# Altium integrated library Resistors.IntLib: 4954 symbols (part 6 of 32)
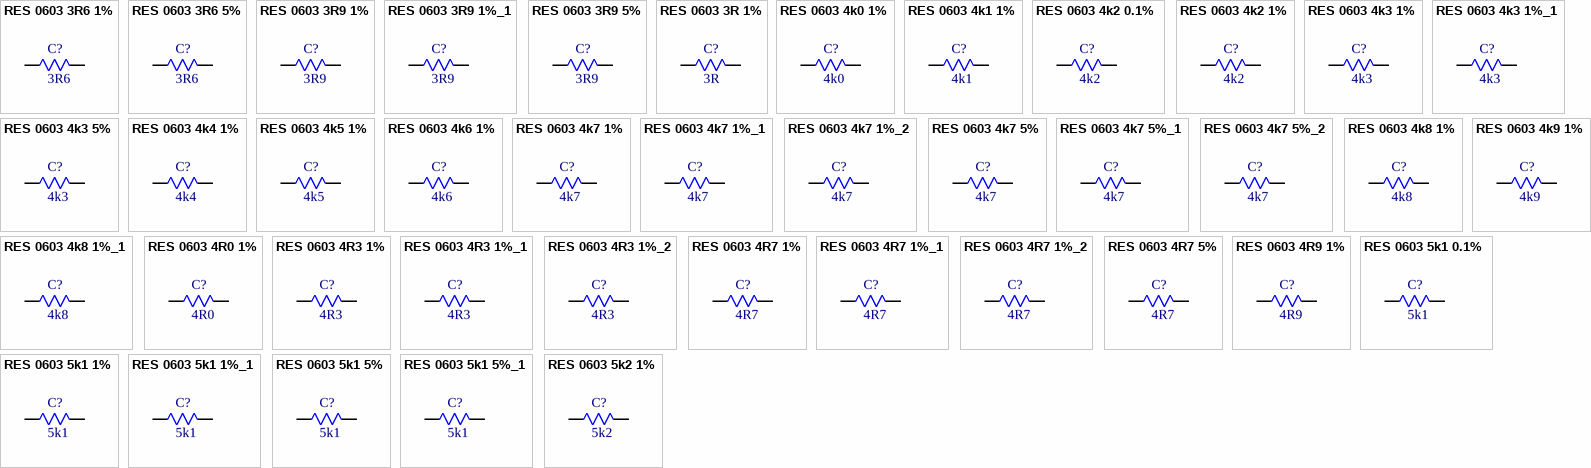
[diagram p128: symbols RES 0603 3R6 1% to RES 0603 5k2 1%]

## RES 0603 5k1 1%
designator C?, comment 5k1
5.1kR 1% 100mW 0603 Thick Film Resistor; Manufacturer: FOJAN; Manufacturer Part Number: FRC0603F5101TS; Voltage Rating: 75V; Supplier: LCSC; Supplier Part Number: C2907044; Resistance: 5k1; Tolerance: 1%; Power: 100mW
footprint RES SMD 0603
pins: 1, 2

## RES 0603 5k1 1%_1
designator C?, comment 5k1
100mW 5.1kR Thick Film Resistor 1% 100ppm/â„ƒ 0603 Chip Resistor - Surface Mount RoHS; Manufacturer: FOJAN; Manufacturer Part Number: FRQ0603F5101TS; Supplier: LCSC; Supplier Part Number: C7468498; Resistance: 5k1; Tolerance: 1%; Power: 100mW
footprint RES SMD 0603
pins: 1, 2

## RES 0603 5k1 5%
designator C?, comment 5k1
5.1kR 5% 100mW 0603 Thick Film Resistor; Manufacturer: FOJAN; Manufacturer Part Number: FRC0603J512 TS; Voltage Rating: 75V; Supplier: LCSC; Supplier Part Number: C2907114; Resistance: 5k1; Tolerance: 5%; Power: 100mW
footprint RES SMD 0603
pins: 1, 2

## RES 0603 5k1 5%_1
designator C?, comment 5k1
5.1kR 5% 100mW 0603 Thick Film Resistor AEC-Q200; Manufacturer: FOJAN; Manufacturer Part Number: FRQ0603J512 TS; Voltage Rating: 75V; Supplier: LCSC; Supplier Part Number: C2934400; Resistance: 5k1; Tolerance: 5%; Power: 100mW
footprint RES SMD 0603
pins: 1, 2

## RES 0603 5k2 1%
designator C?, comment 5k2
5.23kR 1% 100mW 0603 Thick Film Resistor; Manufacturer: FOJAN; Manufacturer Part Number: FRC0603F5231TS; Voltage Rating: 75V; Supplier: LCSC; Supplier Part Number: C2930111; Resistance: 5k2; Tolerance: 1%; Power: 100mW
footprint RES SMD 0603
pins: 1, 2

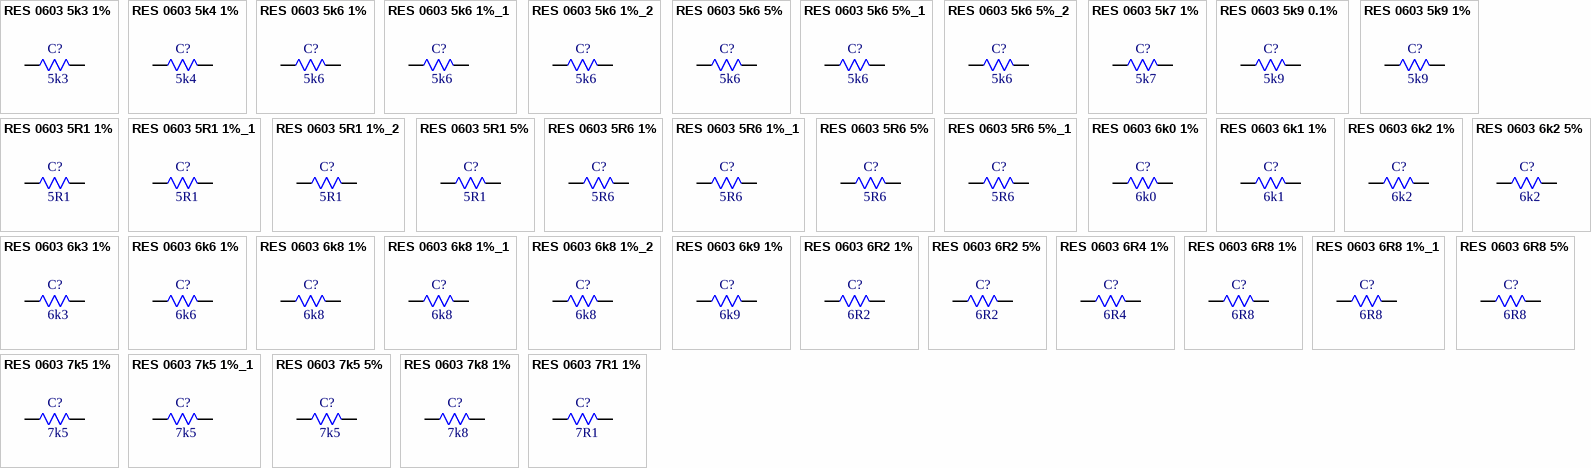
[diagram p20: symbols RES 0603 5k3 1% to RES 0603 7R1 1%]

## RES 0603 5k3 1%
designator C?, comment 5k3
5.36kR 1% 100mW 0603 Thick Film Resistor; Manufacturer: FOJAN; Manufacturer Part Number: FRC0603F5361TS; Voltage Rating: 75V; Supplier: LCSC; Supplier Part Number: C2930112; Resistance: 5k3; Tolerance: 1%; Power: 100mW
footprint RES SMD 0603
pins: 1, 2

## RES 0603 5k4 1%
designator C?, comment 5k4
5.49kR 1% 100mW 0603 Thick Film Resistor; Manufacturer: FOJAN; Manufacturer Part Number: FRC0603F5491TS; Voltage Rating: 75V; Supplier: LCSC; Supplier Part Number: C3000723; Resistance: 5k4; Tolerance: 1%; Power: 100mW
footprint RES SMD 0603
pins: 1, 2

## RES 0603 5k6 1%
designator C?, comment 5k6
5.6kR 1% 100mW 0603 Thick Film Resistor; Manufacturer: FOJAN; Manufacturer Part Number: FRC0603F5601TS; Voltage Rating: 75V; Supplier: LCSC; Supplier Part Number: C2907046; Resistance: 5k6; Tolerance: 1%; Power: 100mW
footprint RES SMD 0603
pins: 1, 2

## RES 0603 5k6 1%_1
designator C?, comment 5k6
5.62kR 1% 100mW 0603 Thick Film Resistor; Manufacturer: FOJAN; Manufacturer Part Number: FRC0603F5621TS; Voltage Rating: 75V; Supplier: LCSC; Supplier Part Number: C2930113; Resistance: 5k6; Tolerance: 1%; Power: 100mW
footprint RES SMD 0603
pins: 1, 2

## RES 0603 5k6 1%_2
designator C?, comment 5k6
100mW 5.6kR 75V Thick Film Resistor 1% 0603 Chip Resistor - Surface Mount RoHS; Manufacturer: FOJAN; Manufacturer Part Number: FRQ0603F5601TS; Supplier: LCSC; Supplier Part Number: C51048242; Resistance: 5k6; Tolerance: 1%; Voltage Rating: 75V; Power: 100mW
footprint RES SMD 0603
pins: 1, 2

## RES 0603 5k6 5%
designator C?, comment 5k6
5.6kR 5% 100mW 0603 Thick Film Resistor; Manufacturer: FOJAN; Manufacturer Part Number: FRC0603J562 TS; Voltage Rating: 75V; Supplier: LCSC; Supplier Part Number: C2907177; Resistance: 5k6; Tolerance: 5%; Power: 100mW
footprint RES SMD 0603
pins: 1, 2

## RES 0603 5k6 5%_1
designator C?, comment 5k6
100mW 5.6kR 75V Thick Film Resistor 5% 0603 Chip Resistor - Surface Mount RoHS; Manufacturer: FOJAN; Manufacturer Part Number: FRR0603J562 TS; Supplier: LCSC; Supplier Part Number: C51048110; Resistance: 5k6; Tolerance: 5%; Voltage Rating: 75V; Power: 100mW
footprint RES SMD 0603
pins: 1, 2

## RES 0603 5k6 5%_2
designator C?, comment 5k6
5.6kR 100mW 75V Thick Film Resistor 5% 100ppm/â„ƒ 0603 Chip Resistor - Surface Mount RoHS; Manufacturer: FOJAN; Manufacturer Part Number: FRQ0603J562 TS; Supplier: LCSC; Supplier Part Number: C7468668; Resistance: 5k6; Tolerance: 5%; Voltage Rating: 75V; Power: 100mW
footprint RES SMD 0603
pins: 1, 2

## RES 0603 5k7 1%
designator C?, comment 5k7
5.76kR 1% 100mW 0603 Thick Film Resistor; Manufacturer: FOJAN; Manufacturer Part Number: FRC0603F5761TS; Voltage Rating: 75V; Supplier: LCSC; Supplier Part Number: C2933239; Resistance: 5k7; Tolerance: 1%; Power: 100mW
footprint RES SMD 0603
pins: 1, 2

## RES 0603 5k9 0.1%
designator C?, comment 5k9
5.9kR 100mW 75V Thick Film Resistor 100ppm/â„ƒ 0.1% 0603 Chip Resistor - Surface Mount RoHS; Manufacturer: FOJAN; Manufacturer Part Number: FRH0603B5901TS; Supplier: LCSC; Supplier Part Number: C48533788; Resistance: 5k9; Tolerance: 0.1%; Voltage Rating: 75V; Power: 100mW
footprint RES SMD 0603
pins: 1, 2

## RES 0603 5k9 1%
designator C?, comment 5k9
5.9kR 1% 100mW 0603 Thick Film Resistor; Manufacturer: FOJAN; Manufacturer Part Number: FRC0603F5901TS; Voltage Rating: 75V; Supplier: LCSC; Supplier Part Number: C2933242; Resistance: 5k9; Tolerance: 1%; Power: 100mW
footprint RES SMD 0603
pins: 1, 2

## RES 0603 5R1 1%
designator C?, comment 5R1
5.1R 1% 100mW 0603 Thick Film Resistor; Manufacturer: FOJAN; Manufacturer Part Number: FRC0603F5R10TS; Voltage Rating: 75V; Supplier: LCSC; Supplier Part Number: C2907045; Resistance: 5R1; Tolerance: 1%; Power: 100mW
footprint RES SMD 0603
pins: 1, 2

## RES 0603 5R1 1%_1
designator C?, comment 5R1
5.1MR 1% 100mW 0603 Thick Film Resistor; Manufacturer: FOJAN; Manufacturer Part Number: FRC0603F5104TS; Voltage Rating: 75V; Supplier: LCSC; Supplier Part Number: C2933232; Resistance: 5R1; Tolerance: 1%; Power: 100mW
footprint RES SMD 0603
pins: 1, 2

## RES 0603 5R1 1%_2
designator C?, comment 5R1
5.11MR 1% 100mW 0603 Thick Film Resistor; Manufacturer: FOJAN; Manufacturer Part Number: FRC0603F5114TS; Voltage Rating: 75V; Supplier: LCSC; Supplier Part Number: C3000722; Resistance: 5R1; Tolerance: 1%; Power: 100mW
footprint RES SMD 0603
pins: 1, 2

## RES 0603 5R1 5%
designator C?, comment 5R1
5.1MR 5% 100mW 0603 Thick Film Resistor; Manufacturer: FOJAN; Manufacturer Part Number: FRC0603J515 TS; Voltage Rating: 75V; Supplier: LCSC; Supplier Part Number: C2907175; Resistance: 5R1; Tolerance: 5%; Power: 100mW
footprint RES SMD 0603
pins: 1, 2

## RES 0603 5R6 1%
designator C?, comment 5R6
5.6R 1% 100mW 0603 Thick Film Resistor; Manufacturer: FOJAN; Manufacturer Part Number: FRC0603F5R60TS; Voltage Rating: 75V; Supplier: LCSC; Supplier Part Number: C2933244; Resistance: 5R6; Tolerance: 1%; Power: 100mW
footprint RES SMD 0603
pins: 1, 2

## RES 0603 5R6 1%_1
designator C?, comment 5R6
5.6MR 1% 100mW 0603 Thick Film Resistor; Manufacturer: FOJAN; Manufacturer Part Number: FRC0603F5604TS; Voltage Rating: 75V; Supplier: LCSC; Supplier Part Number: C2933237; Resistance: 5R6; Tolerance: 1%; Power: 100mW
footprint RES SMD 0603
pins: 1, 2

## RES 0603 5R6 5%
designator C?, comment 5R6
5.6R 5% 100mW 0603 Thick Film Resistor; Manufacturer: FOJAN; Manufacturer Part Number: FRC0603J5R6 TS; Voltage Rating: 75V; Supplier: LCSC; Supplier Part Number: C2933277; Resistance: 5R6; Tolerance: 5%; Power: 100mW
footprint RES SMD 0603
pins: 1, 2

## RES 0603 5R6 5%_1
designator C?, comment 5R6
5.6MR 5% 100mW 0603 Thick Film Resistor; Manufacturer: FOJAN; Manufacturer Part Number: FRC0603J565 TS; Voltage Rating: 75V; Supplier: LCSC; Supplier Part Number: C2933276; Resistance: 5R6; Tolerance: 5%; Power: 100mW
footprint RES SMD 0603
pins: 1, 2

## RES 0603 6k0 1%
designator C?, comment 6k0
6.04kR 1% 100mW 0603 Thick Film Resistor; Manufacturer: FOJAN; Manufacturer Part Number: FRC0603F6041TS; Voltage Rating: 75V; Supplier: LCSC; Supplier Part Number: C2999565; Resistance: 6k0; Tolerance: 1%; Power: 100mW
footprint RES SMD 0603
pins: 1, 2

## RES 0603 6k1 1%
designator C?, comment 6k1
6.19kR 1% 100mW 0603 Thick Film Resistor; Manufacturer: FOJAN; Manufacturer Part Number: FRC0603F6191TS; Voltage Rating: 75V; Supplier: LCSC; Supplier Part Number: C2930119; Resistance: 6k1; Tolerance: 1%; Power: 100mW
footprint RES SMD 0603
pins: 1, 2

## RES 0603 6k2 1%
designator C?, comment 6k2
6.2kR 1% 100mW 0603 Thick Film Resistor; Manufacturer: FOJAN; Manufacturer Part Number: FRC0603F6201TS; Voltage Rating: 75V; Supplier: LCSC; Supplier Part Number: C2907054; Resistance: 6k2; Tolerance: 1%; Power: 100mW
footprint RES SMD 0603
pins: 1, 2

## RES 0603 6k2 5%
designator C?, comment 6k2
6.2kR 5% 100mW 0603 Thick Film Resistor; Manufacturer: FOJAN; Manufacturer Part Number: FRC0603J622 TS; Voltage Rating: 75V; Supplier: LCSC; Supplier Part Number: C2907186; Resistance: 6k2; Tolerance: 5%; Power: 100mW
footprint RES SMD 0603
pins: 1, 2

## RES 0603 6k3 1%
designator C?, comment 6k3
6.34kR 1% 100mW 0603 Thick Film Resistor; Manufacturer: FOJAN; Manufacturer Part Number: FRC0603F6341TS; Voltage Rating: 75V; Supplier: LCSC; Supplier Part Number: C2930120; Resistance: 6k3; Tolerance: 1%; Power: 100mW
footprint RES SMD 0603
pins: 1, 2

## RES 0603 6k6 1%
designator C?, comment 6k6
6.65kR 1% 100mW 0603 Thick Film Resistor; Manufacturer: FOJAN; Manufacturer Part Number: FRC0603F6651TS; Voltage Rating: 75V; Supplier: LCSC; Supplier Part Number: C5126260; Resistance: 6k6; Tolerance: 1%; Power: 100mW
footprint RES SMD 0603
pins: 1, 2

## RES 0603 6k8 1%
designator C?, comment 6k8
6.8kR 1% 100mW 0603 Thick Film Resistor; Manufacturer: FOJAN; Manufacturer Part Number: FRC0603F6801TS; Voltage Rating: 75V; Supplier: LCSC; Supplier Part Number: C2907055; Resistance: 6k8; Tolerance: 1%; Power: 100mW
footprint RES SMD 0603
pins: 1, 2

## RES 0603 6k8 1%_1
designator C?, comment 6k8
6.81kR 1% 100mW 0603 Thick Film Resistor; Manufacturer: FOJAN; Manufacturer Part Number: FRC0603F6811TS; Voltage Rating: 75V; Supplier: LCSC; Supplier Part Number: C2930121; Resistance: 6k8; Tolerance: 1%; Power: 100mW
footprint RES SMD 0603
pins: 1, 2

## RES 0603 6k8 1%_2
designator C?, comment 6k8
6.8kR 100mW 75V Thick Film Resistor 1% 100ppm/â„ƒ 0603 Chip Resistor - Surface Mount RoHS; Manufacturer: FOJAN; Manufacturer Part Number: FRQ0603F6801TS; Supplier: LCSC; Supplier Part Number: C7468500; Resistance: 6k8; Tolerance: 1%; Voltage Rating: 75V; Power: 100mW
footprint RES SMD 0603
pins: 1, 2

## RES 0603 6k9 1%
designator C?, comment 6k9
6.98kR 1% 100mW 0603 Thick Film Resistor; Manufacturer: FOJAN; Manufacturer Part Number: FRC0603F6981TS; Voltage Rating: 75V; Supplier: LCSC; Supplier Part Number: C2930122; Resistance: 6k9; Tolerance: 1%; Power: 100mW
footprint RES SMD 0603
pins: 1, 2

## RES 0603 6R2 1%
designator C?, comment 6R2
6.2R 1% 100mW 0603 Thick Film Resistor; Manufacturer: FOJAN; Manufacturer Part Number: FRC0603F6R20TS; Voltage Rating: 75V; Supplier: LCSC; Supplier Part Number: C3013206; Resistance: 6R2; Tolerance: 1%; Power: 100mW
footprint RES SMD 0603
pins: 1, 2

## RES 0603 6R2 5%
designator C?, comment 6R2
6.2MR 5% 100mW 0603 Thick Film Resistor; Manufacturer: FOJAN; Manufacturer Part Number: FRC0603J625TS; Voltage Rating: 75V; Supplier: LCSC; Supplier Part Number: C2930042; Resistance: 6R2; Tolerance: 5%; Power: 100mW
footprint RES SMD 0603
pins: 1, 2

## RES 0603 6R4 1%
designator C?, comment 6R4
6.49R 1% 100mW 0603 Thick Film Resistor; Manufacturer: FOJAN; Manufacturer Part Number: FRC0603F6R49TS; Voltage Rating: 75V; Supplier: LCSC; Supplier Part Number: C2999592; Resistance: 6R4; Tolerance: 1%; Power: 100mW
footprint RES SMD 0603
pins: 1, 2

## RES 0603 6R8 1%
designator C?, comment 6R8
6.8R 1% 100mW 0603 Thick Film Resistor; Manufacturer: FOJAN; Manufacturer Part Number: FRC0603F6R80TS; Voltage Rating: 75V; Supplier: LCSC; Supplier Part Number: C2907056; Resistance: 6R8; Tolerance: 1%; Power: 100mW
footprint RES SMD 0603
pins: 1, 2

## RES 0603 6R8 1%_1
designator C?, comment 6R8
6.8MR 1% 100mW 0603 Thick Film Resistor; Manufacturer: FOJAN; Manufacturer Part Number: FRC0603F6804TS; Voltage Rating: 75V; Supplier: LCSC; Supplier Part Number: C3013205; Resistance: 6R8; Tolerance: 1%; Power: 100mW
footprint RES SMD 0603
pins: 1, 2

## RES 0603 6R8 5%
designator C?, comment 6R8
6.8R 5% 100mW 0603 Thick Film Resistor; Manufacturer: FOJAN; Manufacturer Part Number: FRC0603J6R8 TS; Voltage Rating: 75V; Supplier: LCSC; Supplier Part Number: C2907190; Resistance: 6R8; Tolerance: 5%; Power: 100mW
footprint RES SMD 0603
pins: 1, 2

## RES 0603 7k5 1%
designator C?, comment 7k5
7.5kR 1% 100mW 0603 Thick Film Resistor; Manufacturer: FOJAN; Manufacturer Part Number: FRC0603F7501TS; Voltage Rating: 75V; Supplier: LCSC; Supplier Part Number: C2930127; Resistance: 7k5; Tolerance: 1%; Power: 100mW
footprint RES SMD 0603
pins: 1, 2

## RES 0603 7k5 1%_1
designator C?, comment 7k5
7.5kR 100mW 75V Thick Film Resistor 1% 0603 Chip Resistor - Surface Mount RoHS; Manufacturer: FOJAN; Manufacturer Part Number: FRR0603F7501TS; Supplier: LCSC; Supplier Part Number: C52033514; Resistance: 7k5; Tolerance: 1%; Voltage Rating: 75V; Power: 100mW
footprint RES SMD 0603
pins: 1, 2

## RES 0603 7k5 5%
designator C?, comment 7k5
7.5kR 100mW 75V Thick Film Resistor 100ppm/â„ƒ 5% 0603 Chip Resistor - Surface Mount RoHS; Manufacturer: FOJAN; Manufacturer Part Number: FRR0603J752 TS; Supplier: LCSC; Supplier Part Number: C49196818; Resistance: 7k5; Tolerance: 5%; Voltage Rating: 75V; Power: 100mW
footprint RES SMD 0603
pins: 1, 2

## RES 0603 7k8 1%
designator C?, comment 7k8
7.87kR 1% 100mW 0603 Thick Film Resistor; Manufacturer: FOJAN; Manufacturer Part Number: FRC0603F7871TS; Voltage Rating: 75V; Supplier: LCSC; Supplier Part Number: C2930129; Resistance: 7k8; Tolerance: 1%; Power: 100mW
footprint RES SMD 0603
pins: 1, 2

## RES 0603 7R1 1%
designator C?, comment 7R1
7.15R 1% 100mW 0603 Thick Film Resistor; Manufacturer: FOJAN; Manufacturer Part Number: FRC0603F7R15TS; Voltage Rating: 75V; Supplier: LCSC; Supplier Part Number: C2933259; Resistance: 7R1; Tolerance: 1%; Power: 100mW
footprint RES SMD 0603
pins: 1, 2

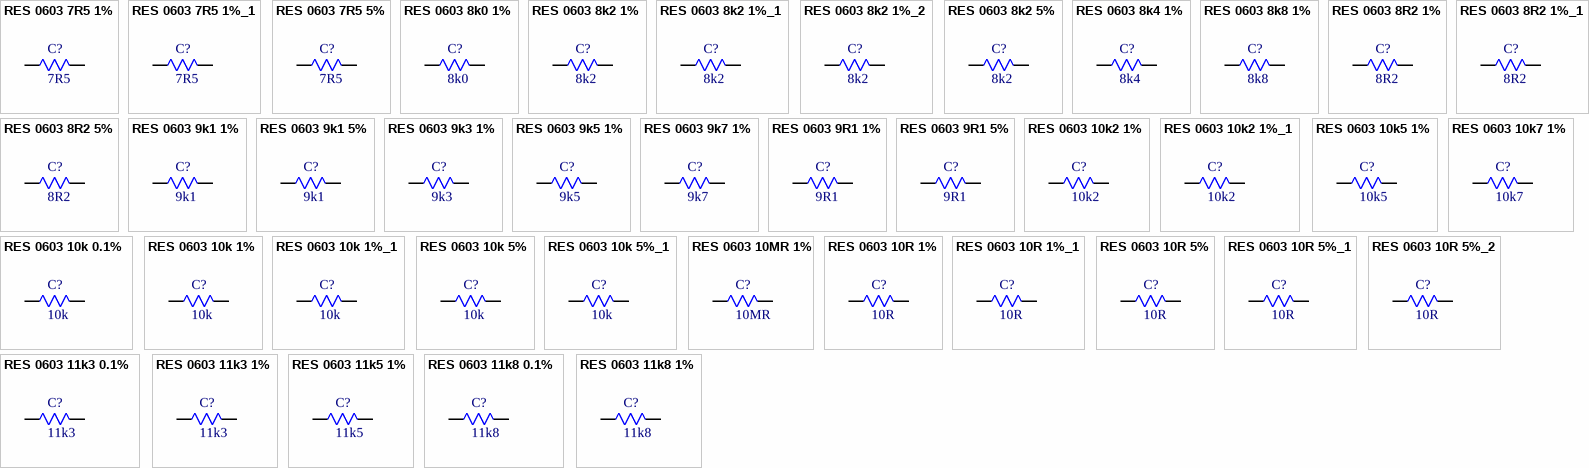
[diagram p21: symbols RES 0603 7R5 1% to RES 0603 11k8 1%]

## RES 0603 7R5 1%
designator C?, comment 7R5
7.5R 1% 100mW 0603 Thick Film Resistor; Manufacturer: FOJAN; Manufacturer Part Number: FRC0603F7R50TS; Voltage Rating: 75V; Supplier: LCSC; Supplier Part Number: C2999459; Resistance: 7R5; Tolerance: 1%; Power: 100mW
footprint RES SMD 0603
pins: 1, 2

## RES 0603 7R5 1%_1
designator C?, comment 7R5
7.5MR 1% 100mW 0603 Thick Film Resistor; Manufacturer: FOJAN; Manufacturer Part Number: FRC0603F7504TS; Voltage Rating: 75V; Supplier: LCSC; Supplier Part Number: C2999500; Resistance: 7R5; Tolerance: 1%; Power: 100mW
footprint RES SMD 0603
pins: 1, 2

## RES 0603 7R5 5%
designator C?, comment 7R5
7.5R 5% 100mW 0603 Thick Film Resistor; Manufacturer: FOJAN; Manufacturer Part Number: FRC0603J7R5 TS; Voltage Rating: 75V; Supplier: LCSC; Supplier Part Number: C2907200; Resistance: 7R5; Tolerance: 5%; Power: 100mW
footprint RES SMD 0603
pins: 1, 2

## RES 0603 8k0 1%
designator C?, comment 8k0
8.06kR 1% 100mW 0603 Thick Film Resistor; Manufacturer: FOJAN; Manufacturer Part Number: FRC0603F8061TS; Voltage Rating: 75V; Supplier: LCSC; Supplier Part Number: C2960681; Resistance: 8k0; Tolerance: 1%; Power: 100mW
footprint RES SMD 0603
pins: 1, 2

## RES 0603 8k2 1%
designator C?, comment 8k2
8.2kR 1% 100mW 0603 Thick Film Resistor; Manufacturer: FOJAN; Manufacturer Part Number: FRC0603F8201TS; Voltage Rating: 75V; Supplier: LCSC; Supplier Part Number: C2907069; Resistance: 8k2; Tolerance: 1%; Power: 100mW
footprint RES SMD 0603
pins: 1, 2

## RES 0603 8k2 1%_1
designator C?, comment 8k2
8.25kR 1% 100mW 0603 Thick Film Resistor; Manufacturer: FOJAN; Manufacturer Part Number: FRC0603F8251TS; Voltage Rating: 75V; Supplier: LCSC; Supplier Part Number: C2933261; Resistance: 8k2; Tolerance: 1%; Power: 100mW
footprint RES SMD 0603
pins: 1, 2

## RES 0603 8k2 1%_2
designator C?, comment 8k2
100mW 8.2kR 350V Thick Film Resistor 1% 200ppm/â„ƒ 0603 Chip Resistor - Surface Mount RoHS; Manufacturer: FOJAN; Manufacturer Part Number: FRV0603F8201TS; Supplier: LCSC; Supplier Part Number: C51048241; Resistance: 8k2; Tolerance: 1%; Voltage Rating: 350V; Power: 100mW
footprint RES SMD 0603
pins: 1, 2

## RES 0603 8k2 5%
designator C?, comment 8k2
8.2kR 5% 100mW 0603 Thick Film Resistor; Manufacturer: FOJAN; Manufacturer Part Number: FRC0603J822 TS; Voltage Rating: 75V; Supplier: LCSC; Supplier Part Number: C2907205; Resistance: 8k2; Tolerance: 5%; Power: 100mW
footprint RES SMD 0603
pins: 1, 2

## RES 0603 8k4 1%
designator C?, comment 8k4
8.45kR 1% 100mW 0603 Thick Film Resistor; Manufacturer: FOJAN; Manufacturer Part Number: FRC0603F8451TS; Voltage Rating: 75V; Supplier: LCSC; Supplier Part Number: C2933263; Resistance: 8k4; Tolerance: 1%; Power: 100mW
footprint RES SMD 0603
pins: 1, 2

## RES 0603 8k8 1%
designator C?, comment 8k8
8.87kR 1% 100mW 0603 Thick Film Resistor; Manufacturer: FOJAN; Manufacturer Part Number: FRC0603F8871TS; Voltage Rating: 75V; Supplier: LCSC; Supplier Part Number: C2998144; Resistance: 8k8; Tolerance: 1%; Power: 100mW
footprint RES SMD 0603
pins: 1, 2

## RES 0603 8R2 1%
designator C?, comment 8R2
8.2MR 1% 100mW 0603 Thick Film Resistor; Manufacturer: FOJAN; Manufacturer Part Number: FRC0603F8204TS; Voltage Rating: 75V; Supplier: LCSC; Supplier Part Number: C5713293; Resistance: 8R2; Tolerance: 1%; Power: 100mW
footprint RES SMD 0603
pins: 1, 2

## RES 0603 8R2 1%_1
designator C?, comment 8R2
8.2R 1% 100mW 0603 Thick Film Resistor; Manufacturer: FOJAN; Manufacturer Part Number: FRC0603F8R20TS; Voltage Rating: 75V; Supplier: LCSC; Supplier Part Number: C2998143; Resistance: 8R2; Tolerance: 1%; Power: 100mW
footprint RES SMD 0603
pins: 1, 2

## RES 0603 8R2 5%
designator C?, comment 8R2
8.2MR 5% 100mW 0603 Thick Film Resistor; Manufacturer: FOJAN; Manufacturer Part Number: FRC0603J825 TS; Voltage Rating: 75V; Supplier: LCSC; Supplier Part Number: C2933278; Resistance: 8R2; Tolerance: 5%; Power: 100mW
footprint RES SMD 0603
pins: 1, 2

## RES 0603 9k1 1%
designator C?, comment 9k1
9.1kR 1% 100mW 0603 Thick Film Resistor; Manufacturer: FOJAN; Manufacturer Part Number: FRC0603F9101TS; Voltage Rating: 75V; Supplier: LCSC; Supplier Part Number: C2907074; Resistance: 9k1; Tolerance: 1%; Power: 100mW
footprint RES SMD 0603
pins: 1, 2

## RES 0603 9k1 5%
designator C?, comment 9k1
9.1kR 5% 100mW 0603 Thick Film Resistor; Manufacturer: FOJAN; Manufacturer Part Number: FRC0603J912 TS; Voltage Rating: 75V; Supplier: LCSC; Supplier Part Number: C2907210; Resistance: 9k1; Tolerance: 5%; Power: 100mW
footprint RES SMD 0603
pins: 1, 2

## RES 0603 9k3 1%
designator C?, comment 9k3
9.31kR 1% 100mW 0603 Thick Film Resistor; Manufacturer: FOJAN; Manufacturer Part Number: FRC0603F9311TS; Voltage Rating: 75V; Supplier: LCSC; Supplier Part Number: C2930135; Resistance: 9k3; Tolerance: 1%; Power: 100mW
footprint RES SMD 0603
pins: 1, 2

## RES 0603 9k5 1%
designator C?, comment 9k5
9.53kR 1% 100mW 0603 Thick Film Resistor; Manufacturer: FOJAN; Manufacturer Part Number: FRC0603F9531TS; Voltage Rating: 75V; Supplier: LCSC; Supplier Part Number: C2960722; Resistance: 9k5; Tolerance: 1%; Power: 100mW
footprint RES SMD 0603
pins: 1, 2

## RES 0603 9k7 1%
designator C?, comment 9k7
9.76kR 1% 100mW 0603 Thick Film Resistor; Manufacturer: FOJAN; Manufacturer Part Number: FRC0603F9761TS; Voltage Rating: 75V; Supplier: LCSC; Supplier Part Number: C2933269; Resistance: 9k7; Tolerance: 1%; Power: 100mW
footprint RES SMD 0603
pins: 1, 2

## RES 0603 9R1 1%
designator C?, comment 9R1
9.1R 1% 100mW 0603 Thick Film Resistor; Manufacturer: FOJAN; Manufacturer Part Number: FRC0603F9R10TS; Voltage Rating: 75V; Supplier: LCSC; Supplier Part Number: C2930155; Resistance: 9R1; Tolerance: 1%; Power: 100mW
footprint RES SMD 0603
pins: 1, 2

## RES 0603 9R1 5%
designator C?, comment 9R1
9.1MR 5% 100mW 0603 Thick Film Resistor; Manufacturer: FOJAN; Manufacturer Part Number: FRC0603J915 TS; Voltage Rating: 75V; Supplier: LCSC; Supplier Part Number: C2933279; Resistance: 9R1; Tolerance: 5%; Power: 100mW
footprint RES SMD 0603
pins: 1, 2

## RES 0603 10k2 1%
designator C?, comment 10k2
10.2kR 1% 100mW 0603 Thick Film Resistor; Manufacturer: FOJAN; Manufacturer Part Number: FRC0603F1022TS; Voltage Rating: 75V; Supplier: LCSC; Supplier Part Number: C2933125; Resistance: 10k2; Tolerance: 1%; Power: 100mW
footprint RES SMD 0603
pins: 1, 2

## RES 0603 10k2 1%_1
designator C?, comment 10k2
10.2kR 100mW 75V Thick Film Resistor 100ppm/â„ƒ 1% 0603 Chip Resistor - Surface Mount RoHS; Manufacturer: FOJAN; Manufacturer Part Number: FRR0603F1022TS; Supplier: LCSC; Supplier Part Number: C49196756; Resistance: 10k2; Tolerance: 1%; Voltage Rating: 75V; Power: 100mW
footprint RES SMD 0603
pins: 1, 2

## RES 0603 10k5 1%
designator C?, comment 10k5
10.5kR 1% 100mW 0603 Thick Film Resistor; Manufacturer: FOJAN; Manufacturer Part Number: FRC0603F1052TS; Voltage Rating: 75V; Supplier: LCSC; Supplier Part Number: C2933127; Resistance: 10k5; Tolerance: 1%; Power: 100mW
footprint RES SMD 0603
pins: 1, 2

## RES 0603 10k7 1%
designator C?, comment 10k7
10.7kR 1% 100mW 0603 Thick Film Resistor; Manufacturer: FOJAN; Manufacturer Part Number: FRC0603F1072TS; Voltage Rating: 75V; Supplier: LCSC; Supplier Part Number: C5153968; Resistance: 10k7; Tolerance: 1%; Power: 100mW
footprint RES SMD 0603
pins: 1, 2

## RES 0603 10k 0.1%
designator C?, comment 10k
10kR 0.1% 100mW 0603 Thick Film Resistor; Manufacturer: FOJAN; Manufacturer Part Number: FRH0603B1002TS; Voltage Rating: 75V; Supplier: LCSC; Supplier Part Number: C5126214; Resistance: 10k; Tolerance: 0.1%; Power: 100mW
footprint RES SMD 0603
pins: 1, 2

## RES 0603 10k 1%
designator C?, comment 10k
10kR 1% 100mW 0603 Thick Film Resistor; Manufacturer: FOJAN; Manufacturer Part Number: FRC0603F1002TS; Voltage Rating: 75V; Supplier: LCSC; Supplier Part Number: C2906982; Resistance: 10k; Tolerance: 1%; Power: 100mW
footprint RES SMD 0603
pins: 1, 2

## RES 0603 10k 1%_1
designator C?, comment 10k
10kR 1% 100mW 0603 Thick Film Resistor AEC-Q200; Manufacturer: FOJAN; Manufacturer Part Number: FRQ0603F1002TS; Voltage Rating: 75V; Supplier: LCSC; Supplier Part Number: C5713432; Resistance: 10k; Tolerance: 1%; Power: 100mW
footprint RES SMD 0603
pins: 1, 2

## RES 0603 10k 5%
designator C?, comment 10k
10kR 5% 100mW 0603 Thick Film Resistor; Manufacturer: FOJAN; Manufacturer Part Number: FRC0603J103 TS; Voltage Rating: 75V; Supplier: LCSC; Supplier Part Number: C2930027; Resistance: 10k; Tolerance: 5%; Power: 100mW
footprint RES SMD 0603
pins: 1, 2

## RES 0603 10k 5%_1
designator C?, comment 10k
10kR 100mW 75V Thick Film Resistor 100ppm/â„ƒ 5% 0603 Chip Resistor - Surface Mount RoHS; Manufacturer: FOJAN; Manufacturer Part Number: FRR0603J103 TS; Supplier: LCSC; Supplier Part Number: C49196789; Resistance: 10k; Tolerance: 5%; Voltage Rating: 75V; Power: 100mW
footprint RES SMD 0603
pins: 1, 2

## RES 0603 10MR 1%
designator C?, comment 10MR
10MR 1% 100mW 0603 Thick Film Resistor; Manufacturer: FOJAN; Manufacturer Part Number: FRC0603F1005TS; Voltage Rating: 75V; Supplier: LCSC; Supplier Part Number: C2930145; Resistance: 10MR; Tolerance: 1%; Power: 100mW
footprint RES SMD 0603
pins: 1, 2

## RES 0603 10R 1%
designator C?, comment 10R
10R 1% 100mW 0603 Thick Film Resistor; Manufacturer: FOJAN; Manufacturer Part Number: FRC0603F10R0TS; Voltage Rating: 75V; Supplier: LCSC; Supplier Part Number: C2906983; Resistance: 10R; Tolerance: 1%; Power: 100mW
footprint RES SMD 0603
pins: 1, 2

## RES 0603 10R 1%_1
designator C?, comment 10R
10R 100mW 75V Thick Film Resistor 200ppm/â„ƒ 1% 0603 Chip Resistor - Surface Mount RoHS; Manufacturer: FOJAN; Manufacturer Part Number: FRQ0603F10R0TS; Supplier: LCSC; Supplier Part Number: C7468682; Resistance: 10R; Tolerance: 1%; Voltage Rating: 75V; Power: 100mW
footprint RES SMD 0603
pins: 1, 2

## RES 0603 10R 5%
designator C?, comment 10R
10R 5% 100mW 0603 Thick Film Resistor; Manufacturer: FOJAN; Manufacturer Part Number: FRC0603J100 TS; Voltage Rating: 75V; Supplier: LCSC; Supplier Part Number: C2907091; Resistance: 10R; Tolerance: 5%; Power: 100mW
footprint RES SMD 0603
pins: 1, 2

## RES 0603 10R 5%_1
designator C?, comment 10R
10R 5% 100mW 0603 Thick Film Resistor; Manufacturer: FOJAN; Manufacturer Part Number: FRQ0603J100 TS; Voltage Rating: 75V; Supplier: LCSC; Supplier Part Number: C19267415; Resistance: 10R; Tolerance: 5%; Power: 100mW
footprint RES SMD 0603
pins: 1, 2

## RES 0603 10R 5%_2
designator C?, comment 10R
10R 100mW 75V Thick Film Resistor 5% 200ppm/â„ƒ 0603 Chip Resistor - Surface Mount RoHS; Manufacturer: FOJAN; Manufacturer Part Number: FRR0603J100 TS; Supplier: LCSC; Supplier Part Number: C49196790; Resistance: 10R; Tolerance: 5%; Voltage Rating: 75V; Power: 100mW
footprint RES SMD 0603
pins: 1, 2

## RES 0603 11k3 0.1%
designator C?, comment 11k3
100mW 11.3kR 75V Thick Film Resistor 100ppm/â„ƒ 0.1% 0603 Chip Resistor - Surface Mount RoHS; Manufacturer: FOJAN; Manufacturer Part Number: FRH0603B1132TS; Supplier: LCSC; Supplier Part Number: C49196912; Resistance: 11k3; Tolerance: 0.1%; Voltage Rating: 75V; Power: 100mW
footprint RES SMD 0603
pins: 1, 2

## RES 0603 11k3 1%
designator C?, comment 11k3
11.3kR 1% 100mW 0603 Thick Film Resistor; Manufacturer: FOJAN; Manufacturer Part Number: FRC0603F1132TS; Voltage Rating: 75V; Supplier: LCSC; Supplier Part Number: C2933130; Resistance: 11k3; Tolerance: 1%; Power: 100mW
footprint RES SMD 0603
pins: 1, 2

## RES 0603 11k5 1%
designator C?, comment 11k5
11.5kR 1% 100mW 0603 Thick Film Resistor; Manufacturer: FOJAN; Manufacturer Part Number: FRC0603F1152TS; Voltage Rating: 75V; Supplier: LCSC; Supplier Part Number: C2930057; Resistance: 11k5; Tolerance: 1%; Power: 100mW
footprint RES SMD 0603
pins: 1, 2

## RES 0603 11k8 0.1%
designator C?, comment 11k8
100mW 11.8kR 75V Thick Film Resistor 100ppm/â„ƒ 0.1% 0603 Chip Resistor - Surface Mount RoHS; Manufacturer: FOJAN; Manufacturer Part Number: FRH0603B1182TS; Supplier: LCSC; Supplier Part Number: C49196914; Resistance: 11k8; Tolerance: 0.1%; Voltage Rating: 75V; Power: 100mW
footprint RES SMD 0603
pins: 1, 2

## RES 0603 11k8 1%
designator C?, comment 11k8
11.8kR 1% 100mW 0603 Thick Film Resistor; Manufacturer: FOJAN; Manufacturer Part Number: FRC0603F1182TS; Voltage Rating: 75V; Supplier: LCSC; Supplier Part Number: C2933133; Resistance: 11k8; Tolerance: 1%; Power: 100mW
footprint RES SMD 0603
pins: 1, 2

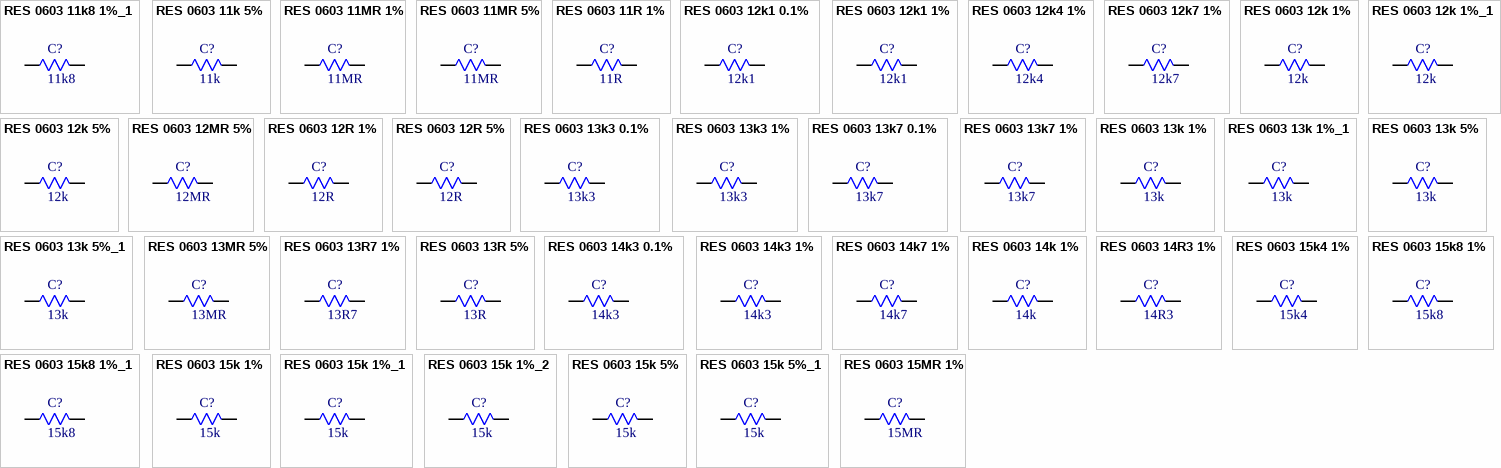
[diagram p22: symbols RES 0603 11k8 1%_1 to RES 0603 15MR 1%]

## RES 0603 11k8 1%_1
designator C?, comment 11k8
11.8kR 100mW 75V Thick Film Resistor 1% 0603 Chip Resistor - Surface Mount RoHS; Manufacturer: FOJAN; Manufacturer Part Number: FRQ0603F1182TS; Supplier: LCSC; Supplier Part Number: C51048120; Resistance: 11k8; Tolerance: 1%; Voltage Rating: 75V; Power: 100mW
footprint RES SMD 0603
pins: 1, 2

## RES 0603 11k 5%
designator C?, comment 11k
11kR 5% 100mW 0603 Thick Film Resistor; Manufacturer: FOJAN; Manufacturer Part Number: FRC0603J113 TS; Voltage Rating: 75V; Supplier: LCSC; Supplier Part Number: C2907093; Resistance: 11k; Tolerance: 5%; Power: 100mW
footprint RES SMD 0603
pins: 1, 2

## RES 0603 11MR 1%
designator C?, comment 11MR
11MR 1% 100mW 0603 Thick Film Resistor; Manufacturer: FOJAN; Manufacturer Part Number: FRG0603F1105TS; Voltage Rating: 75V; Supplier: LCSC; Supplier Part Number: C5126232; Resistance: 11MR; Tolerance: 1%; Power: 100mW
footprint RES SMD 0603
pins: 1, 2

## RES 0603 11MR 5%
designator C?, comment 11MR
11MR 5% 100mW 0603 Thick Film Resistor; Manufacturer: FOJAN; Manufacturer Part Number: FRC0603J116 TS; Voltage Rating: 75V; Supplier: LCSC; Supplier Part Number: C2998171; Resistance: 11MR; Tolerance: 5%; Power: 100mW
footprint RES SMD 0603
pins: 1, 2

## RES 0603 11R 1%
designator C?, comment 11R
11R 1% 100mW 0603 Thick Film Resistor; Manufacturer: FOJAN; Manufacturer Part Number: FRC0603F11R0TS; Voltage Rating: 75V; Supplier: LCSC; Supplier Part Number: C2930058; Resistance: 11R; Tolerance: 1%; Power: 100mW
footprint RES SMD 0603
pins: 1, 2

## RES 0603 12k1 0.1%
designator C?, comment 12k1
100mW 12.1kR 75V Thick Film Resistor 100ppm/â„ƒ 0.1% 0603 Chip Resistor - Surface Mount RoHS; Manufacturer: FOJAN; Manufacturer Part Number: FRH0603B1212TS; Supplier: LCSC; Supplier Part Number: C49196913; Resistance: 12k1; Tolerance: 0.1%; Voltage Rating: 75V; Power: 100mW
footprint RES SMD 0603
pins: 1, 2

## RES 0603 12k1 1%
designator C?, comment 12k1
12.1kR 1% 100mW 0603 Thick Film Resistor; Manufacturer: FOJAN; Manufacturer Part Number: FRC0603F1212TS; Voltage Rating: 75V; Supplier: LCSC; Supplier Part Number: C2930059; Resistance: 12k1; Tolerance: 1%; Power: 100mW
footprint RES SMD 0603
pins: 1, 2

## RES 0603 12k4 1%
designator C?, comment 12k4
12.4kR 1% 100mW 0603 Thick Film Resistor; Manufacturer: FOJAN; Manufacturer Part Number: FRC0603F1242TS; Voltage Rating: 75V; Supplier: LCSC; Supplier Part Number: C2930060; Resistance: 12k4; Tolerance: 1%; Power: 100mW
footprint RES SMD 0603
pins: 1, 2

## RES 0603 12k7 1%
designator C?, comment 12k7
12.7kR 1% 100mW 0603 Thick Film Resistor; Manufacturer: FOJAN; Manufacturer Part Number: FRC0603F1272TS; Voltage Rating: 75V; Supplier: LCSC; Supplier Part Number: C2933137; Resistance: 12k7; Tolerance: 1%; Power: 100mW
footprint RES SMD 0603
pins: 1, 2

## RES 0603 12k 1%
designator C?, comment 12k
12kR 1% 100mW 0603 Thick Film Resistor; Manufacturer: FOJAN; Manufacturer Part Number: FRC0603F1202TS; Voltage Rating: 75V; Supplier: LCSC; Supplier Part Number: C2906989; Resistance: 12k; Tolerance: 1%; Power: 100mW
footprint RES SMD 0603
pins: 1, 2

## RES 0603 12k 1%_1
designator C?, comment 12k
12kR 100mW Thick Film Resistor 1% 100ppm/â„ƒ 0603 Chip Resistor - Surface Mount RoHS; Manufacturer: FOJAN; Manufacturer Part Number: FRQ0603F1202TS; Supplier: LCSC; Supplier Part Number: C7468539; Resistance: 12k; Tolerance: 1%; Power: 100mW
footprint RES SMD 0603
pins: 1, 2

## RES 0603 12k 5%
designator C?, comment 12k
12kR 5% 100mW 0603 Thick Film Resistor; Manufacturer: FOJAN; Manufacturer Part Number: FRC0603J123 TS; Voltage Rating: 75V; Supplier: LCSC; Supplier Part Number: C2907097; Resistance: 12k; Tolerance: 5%; Power: 100mW
footprint RES SMD 0603
pins: 1, 2

## RES 0603 12MR 5%
designator C?, comment 12MR
100mW 12MR Thick Film Resistor 200ppm/â„ƒ 5% 0603 Chip Resistor - Surface Mount RoHS; Manufacturer: FOJAN; Manufacturer Part Number: FRG0603J126 TS; Supplier: LCSC; Supplier Part Number: C3013335; Resistance: 12MR; Tolerance: 5%; Power: 100mW
footprint RES SMD 0603
pins: 1, 2

## RES 0603 12R 1%
designator C?, comment 12R
12R 1% 100mW 0603 Thick Film Resistor; Manufacturer: FOJAN; Manufacturer Part Number: FRC0603F12R0TS; Voltage Rating: 75V; Supplier: LCSC; Supplier Part Number: C2906990; Resistance: 12R; Tolerance: 1%; Power: 100mW
footprint RES SMD 0603
pins: 1, 2

## RES 0603 12R 5%
designator C?, comment 12R
12R 5% 100mW 0603 Thick Film Resistor; Manufacturer: FOJAN; Manufacturer Part Number: FRC0603J120 TS; Voltage Rating: 75V; Supplier: LCSC; Supplier Part Number: C2907098; Resistance: 12R; Tolerance: 5%; Power: 100mW
footprint RES SMD 0603
pins: 1, 2

## RES 0603 13k3 0.1%
designator C?, comment 13k3
100mW 13.3kR 75V Thick Film Resistor 100ppm/â„ƒ 0.1% 0603 Chip Resistor - Surface Mount RoHS; Manufacturer: FOJAN; Manufacturer Part Number: FRH0603B1332TS; Supplier: LCSC; Supplier Part Number: C49196671; Resistance: 13k3; Tolerance: 0.1%; Voltage Rating: 75V; Power: 100mW
footprint RES SMD 0603
pins: 1, 2

## RES 0603 13k3 1%
designator C?, comment 13k3
13.3kR 1% 100mW 0603 Thick Film Resistor; Manufacturer: FOJAN; Manufacturer Part Number: FRC0603F1332TS; Voltage Rating: 75V; Supplier: LCSC; Supplier Part Number: C2933140; Resistance: 13k3; Tolerance: 1%; Power: 100mW
footprint RES SMD 0603
pins: 1, 2

## RES 0603 13k7 0.1%
designator C?, comment 13k7
100mW 13.7kR 75V Thick Film Resistor 100ppm/â„ƒ 0.1% 0603 Chip Resistor - Surface Mount RoHS; Manufacturer: FOJAN; Manufacturer Part Number: FRH0603B1372TS; Supplier: LCSC; Supplier Part Number: C49196675; Resistance: 13k7; Tolerance: 0.1%; Voltage Rating: 75V; Power: 100mW
footprint RES SMD 0603
pins: 1, 2

## RES 0603 13k7 1%
designator C?, comment 13k7
13.7kR 1% 100mW 0603 Thick Film Resistor; Manufacturer: FOJAN; Manufacturer Part Number: FRC0603F1372TS; Voltage Rating: 75V; Supplier: LCSC; Supplier Part Number: C2930064; Resistance: 13k7; Tolerance: 1%; Power: 100mW
footprint RES SMD 0603
pins: 1, 2

## RES 0603 13k 1%
designator C?, comment 13k
13kR 1% 100mW 0603 Thick Film Resistor; Manufacturer: FOJAN; Manufacturer Part Number: FRC0603F1302TS; Voltage Rating: 75V; Supplier: LCSC; Supplier Part Number: C2906992; Resistance: 13k; Tolerance: 1%; Power: 100mW
footprint RES SMD 0603
pins: 1, 2

## RES 0603 13k 1%_1
designator C?, comment 13k
13kR 1% 100mW 0603 Thick Film Resistor; Manufacturer: FOJAN; Manufacturer Part Number: FRQ0603F1302TS; Voltage Rating: 75V; Supplier: LCSC; Supplier Part Number: C42372214; Resistance: 13k; Tolerance: 1%; Power: 100mW
footprint RES SMD 0603
pins: 1, 2

## RES 0603 13k 5%
designator C?, comment 13k
13kR 5% 100mW 0603 Thick Film Resistor; Manufacturer: FOJAN; Manufacturer Part Number: FRC0603J133 TS; Voltage Rating: 75V; Supplier: LCSC; Supplier Part Number: C2907101; Resistance: 13k; Tolerance: 5%; Power: 100mW
footprint RES SMD 0603
pins: 1, 2

## RES 0603 13k 5%_1
designator C?, comment 13k
13kR 5% 100mW 0603 Thick Film Resistor AEC-Q200; Manufacturer: FOJAN; Manufacturer Part Number: FRQ0603J133 TS; Voltage Rating: 75V; Supplier: LCSC; Supplier Part Number: C2934395; Resistance: 13k; Tolerance: 5%; Power: 100mW
footprint RES SMD 0603
pins: 1, 2

## RES 0603 13MR 5%
designator C?, comment 13MR
100mW 13MR Thick Film Resistor 200ppm/â„ƒ 5% 0603 Chip Resistor - Surface Mount RoHS; Manufacturer: FOJAN; Manufacturer Part Number: FRG0603J136 TS; Supplier: LCSC; Supplier Part Number: C7468705; Resistance: 13MR; Tolerance: 5%; Power: 100mW
footprint RES SMD 0603
pins: 1, 2

## RES 0603 13R7 1%
designator C?, comment 13R7
13.7R 1% 100mW 0603 Thick Film Resistor; Manufacturer: FOJAN; Manufacturer Part Number: FRC0603F13R7TS; Voltage Rating: 75V; Supplier: LCSC; Supplier Part Number: C5159697; Resistance: 13R7; Tolerance: 1%; Power: 100mW
footprint RES SMD 0603
pins: 1, 2

## RES 0603 13R 5%
designator C?, comment 13R
13R 5% 100mW 0603 Thick Film Resistor; Manufacturer: FOJAN; Manufacturer Part Number: FRC0603J130TS; Voltage Rating: 75V; Supplier: LCSC; Supplier Part Number: C2930029; Resistance: 13R; Tolerance: 5%; Power: 100mW
footprint RES SMD 0603
pins: 1, 2

## RES 0603 14k3 0.1%
designator C?, comment 14k3
100mW 14.3kR 75V Thick Film Resistor 100ppm/â„ƒ 0.1% 0603 Chip Resistor - Surface Mount RoHS; Manufacturer: FOJAN; Manufacturer Part Number: FRH0603B1432TS; Supplier: LCSC; Supplier Part Number: C49196676; Resistance: 14k3; Tolerance: 0.1%; Voltage Rating: 75V; Power: 100mW
footprint RES SMD 0603
pins: 1, 2

## RES 0603 14k3 1%
designator C?, comment 14k3
14.3kR 1% 100mW 0603 Thick Film Resistor; Manufacturer: FOJAN; Manufacturer Part Number: FRC0603F1432TS; Voltage Rating: 75V; Supplier: LCSC; Supplier Part Number: C2933145; Resistance: 14k3; Tolerance: 1%; Power: 100mW
footprint RES SMD 0603
pins: 1, 2

## RES 0603 14k7 1%
designator C?, comment 14k7
14.7kR 1% 100mW 0603 Thick Film Resistor; Manufacturer: FOJAN; Manufacturer Part Number: FRC0603F1472TS; Voltage Rating: 75V; Supplier: LCSC; Supplier Part Number: C2933148; Resistance: 14k7; Tolerance: 1%; Power: 100mW
footprint RES SMD 0603
pins: 1, 2

## RES 0603 14k 1%
designator C?, comment 14k
14kR 1% 100mW 0603 Thick Film Resistor; Manufacturer: FOJAN; Manufacturer Part Number: FRC0603F1402TS; Voltage Rating: 75V; Supplier: LCSC; Supplier Part Number: C2930066; Resistance: 14k; Tolerance: 1%; Power: 100mW
footprint RES SMD 0603
pins: 1, 2

## RES 0603 14R3 1%
designator C?, comment 14R3
14.3R 1% 100mW 0603 Thick Film Resistor; Manufacturer: FOJAN; Manufacturer Part Number: FRC0603F14R3TS; Voltage Rating: 75V; Supplier: LCSC; Supplier Part Number: C2999534; Resistance: 14R3; Tolerance: 1%; Power: 100mW
footprint RES SMD 0603
pins: 1, 2

## RES 0603 15k4 1%
designator C?, comment 15k4
15.4kR 1% 100mW 0603 Thick Film Resistor; Manufacturer: FOJAN; Manufacturer Part Number: FRC0603F1542TS; Voltage Rating: 75V; Supplier: LCSC; Supplier Part Number: C2933150; Resistance: 15k4; Tolerance: 1%; Power: 100mW
footprint RES SMD 0603
pins: 1, 2

## RES 0603 15k8 1%
designator C?, comment 15k8
15.8kR 1% 100mW 0603 Thick Film Resistor; Manufacturer: FOJAN; Manufacturer Part Number: FRC0603F1582TS; Voltage Rating: 75V; Supplier: LCSC; Supplier Part Number: C2960716; Resistance: 15k8; Tolerance: 1%; Power: 100mW
footprint RES SMD 0603
pins: 1, 2

## RES 0603 15k8 1%_1
designator C?, comment 15k8
15.8kR 100mW 75V Thick Film Resistor 100ppm/â„ƒ 1% 0603 Chip Resistor - Surface Mount RoHS; Manufacturer: FOJAN; Manufacturer Part Number: FRR0603F1582TS; Supplier: LCSC; Supplier Part Number: C49196757; Resistance: 15k8; Tolerance: 1%; Voltage Rating: 75V; Power: 100mW
footprint RES SMD 0603
pins: 1, 2

## RES 0603 15k 1%
designator C?, comment 15k
15kR 1% 100mW 0603 Thick Film Resistor; Manufacturer: FOJAN; Manufacturer Part Number: FRC0603F1502TS; Voltage Rating: 75V; Supplier: LCSC; Supplier Part Number: C2906995; Resistance: 15k; Tolerance: 1%; Power: 100mW
footprint RES SMD 0603
pins: 1, 2

## RES 0603 15k 1%_1
designator C?, comment 15k
15kR 100mW 75V Thick Film Resistor 1% 100ppm/â„ƒ 0603 Chip Resistor - Surface Mount RoHS; Manufacturer: FOJAN; Manufacturer Part Number: FRQ0603F1502TS; Supplier: LCSC; Supplier Part Number: C7468506; Resistance: 15k; Tolerance: 1%; Voltage Rating: 75V; Power: 100mW
footprint RES SMD 0603
pins: 1, 2

## RES 0603 15k 1%_2
designator C?, comment 15k
15kR 100mW 75V Thick Film Resistor 1% 0603 Chip Resistor - Surface Mount RoHS; Manufacturer: FOJAN; Manufacturer Part Number: FRR0603F1502TS; Supplier: LCSC; Supplier Part Number: C52033507; Resistance: 15k; Tolerance: 1%; Voltage Rating: 75V; Power: 100mW
footprint RES SMD 0603
pins: 1, 2

## RES 0603 15k 5%
designator C?, comment 15k
15kR 5% 100mW 0603 Thick Film Resistor AEC-Q200; Manufacturer: FOJAN; Manufacturer Part Number: FRQ0603J153 TS; Voltage Rating: 75V; Supplier: LCSC; Supplier Part Number: C2934396; Resistance: 15k; Tolerance: 5%; Power: 100mW
footprint RES SMD 0603
pins: 1, 2

## RES 0603 15k 5%_1
designator C?, comment 15k
15kR 5% 100mW 0603 Thick Film Resistor; Manufacturer: FOJAN; Manufacturer Part Number: FRC0603J153 TS; Voltage Rating: 75V; Supplier: LCSC; Supplier Part Number: C2907104; Resistance: 15k; Tolerance: 5%; Power: 100mW
footprint RES SMD 0603
pins: 1, 2

## RES 0603 15MR 1%
designator C?, comment 15MR
15MR 1% 100mW 0603 Thick Film Resistor; Manufacturer: FOJAN; Manufacturer Part Number: FRG0603F1505TS; Voltage Rating: 75V; Supplier: LCSC; Supplier Part Number: C5204039; Resistance: 15MR; Tolerance: 1%; Power: 100mW
footprint RES SMD 0603
pins: 1, 2

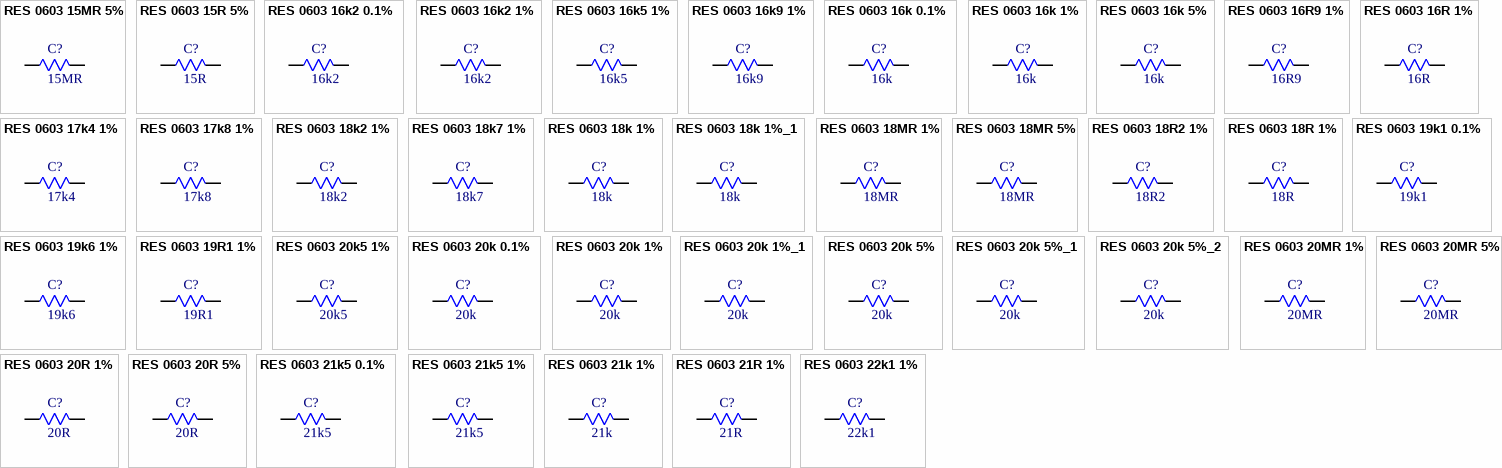
[diagram p23: symbols RES 0603 15MR 5% to RES 0603 22k1 1%]

## RES 0603 15MR 5%
designator C?, comment 15MR
15MR 100mW Thick Film Resistor 200ppm/â„ƒ 5% 0603 Chip Resistor - Surface Mount RoHS; Manufacturer: FOJAN; Manufacturer Part Number: FRG0603J156 TS; Supplier: LCSC; Supplier Part Number: C7468654; Resistance: 15MR; Tolerance: 5%; Power: 100mW
footprint RES SMD 0603
pins: 1, 2

## RES 0603 15R 5%
designator C?, comment 15R
15R 5% 100mW 0603 Thick Film Resistor; Manufacturer: FOJAN; Manufacturer Part Number: FRC0603J150 TS; Voltage Rating: 75V; Supplier: LCSC; Supplier Part Number: C2907105; Resistance: 15R; Tolerance: 5%; Power: 100mW
footprint RES SMD 0603
pins: 1, 2

## RES 0603 16k2 0.1%
designator C?, comment 16k2
100mW 16.2kR 75V Thick Film Resistor 100ppm/â„ƒ 0.1% 0603 Chip Resistor - Surface Mount RoHS; Manufacturer: FOJAN; Manufacturer Part Number: FRH0603B1622TS; Supplier: LCSC; Supplier Part Number: C49196679; Resistance: 16k2; Tolerance: 0.1%; Voltage Rating: 75V; Power: 100mW
footprint RES SMD 0603
pins: 1, 2

## RES 0603 16k2 1%
designator C?, comment 16k2
16.2kR 1% 100mW 0603 Thick Film Resistor; Manufacturer: FOJAN; Manufacturer Part Number: FRC0603F1622TS; Voltage Rating: 75V; Supplier: LCSC; Supplier Part Number: C2933154; Resistance: 16k2; Tolerance: 1%; Power: 100mW
footprint RES SMD 0603
pins: 1, 2

## RES 0603 16k5 1%
designator C?, comment 16k5
16.5kR 1% 100mW 0603 Thick Film Resistor; Manufacturer: FOJAN; Manufacturer Part Number: FRC0603F1652TS; Voltage Rating: 75V; Supplier: LCSC; Supplier Part Number: C2933155; Resistance: 16k5; Tolerance: 1%; Power: 100mW
footprint RES SMD 0603
pins: 1, 2

## RES 0603 16k9 1%
designator C?, comment 16k9
16.9kR 1% 100mW 0603 Thick Film Resistor; Manufacturer: FOJAN; Manufacturer Part Number: FRC0603F1692TS; Voltage Rating: 75V; Supplier: LCSC; Supplier Part Number: C2933158; Resistance: 16k9; Tolerance: 1%; Power: 100mW
footprint RES SMD 0603
pins: 1, 2

## RES 0603 16k 0.1%
designator C?, comment 16k
16kR 0.1% 100mW 0603 Thick Film Resistor; Manufacturer: FOJAN; Manufacturer Part Number: FRH0603B1602TS; Voltage Rating: 75V; Supplier: LCSC; Supplier Part Number: C5713385; Resistance: 16k; Tolerance: 0.1%; Power: 100mW
footprint RES SMD 0603
pins: 1, 2

## RES 0603 16k 1%
designator C?, comment 16k
16kR 1% 100mW 0603 Thick Film Resistor; Manufacturer: FOJAN; Manufacturer Part Number: FRC0603F1602TS; Voltage Rating: 75V; Supplier: LCSC; Supplier Part Number: C2906997; Resistance: 16k; Tolerance: 1%; Power: 100mW
footprint RES SMD 0603
pins: 1, 2

## RES 0603 16k 5%
designator C?, comment 16k
16kR 5% 100mW 0603 Thick Film Resistor; Manufacturer: FOJAN; Manufacturer Part Number: FRC0603J163 TS; Voltage Rating: 75V; Supplier: LCSC; Supplier Part Number: C2907107; Resistance: 16k; Tolerance: 5%; Power: 100mW
footprint RES SMD 0603
pins: 1, 2

## RES 0603 16R9 1%
designator C?, comment 16R9
16.9R 1% 100mW 0603 Thick Film Resistor; Manufacturer: FOJAN; Manufacturer Part Number: FRC0603F16R9TS; Voltage Rating: 75V; Supplier: LCSC; Supplier Part Number: C3013193; Resistance: 16R9; Tolerance: 1%; Power: 100mW
footprint RES SMD 0603
pins: 1, 2

## RES 0603 16R 1%
designator C?, comment 16R
16R 1% 100mW 0603 Thick Film Resistor; Manufacturer: FOJAN; Manufacturer Part Number: FRC0603F16R0TS; Voltage Rating: 75V; Supplier: LCSC; Supplier Part Number: C2906998; Resistance: 16R; Tolerance: 1%; Power: 100mW
footprint RES SMD 0603
pins: 1, 2

## RES 0603 17k4 1%
designator C?, comment 17k4
17.4kR 1% 100mW 0603 Thick Film Resistor; Manufacturer: FOJAN; Manufacturer Part Number: FRC0603F1742TS; Voltage Rating: 75V; Supplier: LCSC; Supplier Part Number: C2930069; Resistance: 17k4; Tolerance: 1%; Power: 100mW
footprint RES SMD 0603
pins: 1, 2

## RES 0603 17k8 1%
designator C?, comment 17k8
17.8kR 1% 100mW 0603 Thick Film Resistor; Manufacturer: FOJAN; Manufacturer Part Number: FRC0603F1782TS; Voltage Rating: 75V; Supplier: LCSC; Supplier Part Number: C2933161; Resistance: 17k8; Tolerance: 1%; Power: 100mW
footprint RES SMD 0603
pins: 1, 2

## RES 0603 18k2 1%
designator C?, comment 18k2
18.2kR 1% 100mW 0603 Thick Film Resistor; Manufacturer: FOJAN; Manufacturer Part Number: FRC0603F1822TS; Voltage Rating: 75V; Supplier: LCSC; Supplier Part Number: C2933164; Resistance: 18k2; Tolerance: 1%; Power: 100mW
footprint RES SMD 0603
pins: 1, 2

## RES 0603 18k7 1%
designator C?, comment 18k7
18.7kR 1% 100mW 0603 Thick Film Resistor; Manufacturer: FOJAN; Manufacturer Part Number: FRC0603F1872TS; Voltage Rating: 75V; Supplier: LCSC; Supplier Part Number: C2930070; Resistance: 18k7; Tolerance: 1%; Power: 100mW
footprint RES SMD 0603
pins: 1, 2

## RES 0603 18k 1%
designator C?, comment 18k
18kR 1% 100mW 0603 Thick Film Resistor; Manufacturer: FOJAN; Manufacturer Part Number: FRC0603F1802TS; Voltage Rating: 75V; Supplier: LCSC; Supplier Part Number: C2907001; Resistance: 18k; Tolerance: 1%; Power: 100mW
footprint RES SMD 0603
pins: 1, 2

## RES 0603 18k 1%_1
designator C?, comment 18k
18kR 1% 100mW 0603 Thick Film Resistor; Manufacturer: FOJAN; Manufacturer Part Number: FRQ0603F1802TS; Voltage Rating: 75V; Supplier: LCSC; Supplier Part Number: C19267413; Resistance: 18k; Tolerance: 1%; Power: 100mW
footprint RES SMD 0603
pins: 1, 2

## RES 0603 18MR 1%
designator C?, comment 18MR
18MR 1% 100mW 0603 Thick Film Resistor; Manufacturer: FOJAN; Manufacturer Part Number: FRG0603F1805TS; Voltage Rating: 75V; Supplier: LCSC; Supplier Part Number: C5153976; Resistance: 18MR; Tolerance: 1%; Power: 100mW
footprint RES SMD 0603
pins: 1, 2

## RES 0603 18MR 5%
designator C?, comment 18MR
18MR 100mW Thick Film Resistor 5% 200ppm/â„ƒ 0603 Chip Resistor - Surface Mount RoHS; Manufacturer: FOJAN; Manufacturer Part Number: FRG0603J186 TS; Supplier: LCSC; Supplier Part Number: C22375086; Resistance: 18MR; Tolerance: 5%; Power: 100mW
footprint RES SMD 0603
pins: 1, 2

## RES 0603 18R2 1%
designator C?, comment 18R2
100mW 18.2R 75V Thick Film Resistor 100ppm/â„ƒ 1% 0603 Chip Resistor - Surface Mount RoHS; Manufacturer: FOJAN; Manufacturer Part Number: FRC0603F18R2TS; Supplier: LCSC; Supplier Part Number: C49196921; Resistance: 18R2; Tolerance: 1%; Voltage Rating: 75V; Power: 100mW
footprint RES SMD 0603
pins: 1, 2

## RES 0603 18R 1%
designator C?, comment 18R
18R 1% 100mW 0603 Thick Film Resistor; Manufacturer: FOJAN; Manufacturer Part Number: FRC0603F18R0TS; Voltage Rating: 75V; Supplier: LCSC; Supplier Part Number: C2933165; Resistance: 18R; Tolerance: 1%; Power: 100mW
footprint RES SMD 0603
pins: 1, 2

## RES 0603 19k1 0.1%
designator C?, comment 19k1
100mW 19.1kR 75V Thick Film Resistor 100ppm/â„ƒ 0.1% 0603 Chip Resistor - Surface Mount RoHS; Manufacturer: FOJAN; Manufacturer Part Number: FRH0603B1912TS; Supplier: LCSC; Supplier Part Number: C49196680; Resistance: 19k1; Tolerance: 0.1%; Voltage Rating: 75V; Power: 100mW
footprint RES SMD 0603
pins: 1, 2

## RES 0603 19k6 1%
designator C?, comment 19k6
19.6kR 1% 100mW 0603 Thick Film Resistor; Manufacturer: FOJAN; Manufacturer Part Number: FRC0603F1962TS; Voltage Rating: 75V; Supplier: LCSC; Supplier Part Number: C2933166; Resistance: 19k6; Tolerance: 1%; Power: 100mW
footprint RES SMD 0603
pins: 1, 2

## RES 0603 19R1 1%
designator C?, comment 19R1
19.1R 1% 100mW 0603 Thick Film Resistor; Manufacturer: FOJAN; Manufacturer Part Number: FRC0603F19R1TS; Voltage Rating: 75V; Supplier: LCSC; Supplier Part Number: C2960701; Resistance: 19R1; Tolerance: 1%; Power: 100mW
footprint RES SMD 0603
pins: 1, 2

## RES 0603 20k5 1%
designator C?, comment 20k5
20.5kR 1% 100mW 0603 Thick Film Resistor; Manufacturer: FOJAN; Manufacturer Part Number: FRC0603F2052TS; Voltage Rating: 75V; Supplier: LCSC; Supplier Part Number: C2930074; Resistance: 20k5; Tolerance: 1%; Power: 100mW
footprint RES SMD 0603
pins: 1, 2

## RES 0603 20k 0.1%
designator C?, comment 20k
100mW 20kR 75V Thick Film Resistor 100ppm/â„ƒ 0.1% 0603 Chip Resistor - Surface Mount RoHS; Manufacturer: FOJAN; Manufacturer Part Number: FRH0603B2002TS; Supplier: LCSC; Supplier Part Number: C49196669; Resistance: 20k; Tolerance: 0.1%; Voltage Rating: 75V; Power: 100mW
footprint RES SMD 0603
pins: 1, 2

## RES 0603 20k 1%
designator C?, comment 20k
20kR 1% 100mW 0603 Thick Film Resistor; Manufacturer: FOJAN; Manufacturer Part Number: FRC0603F2002TS; Voltage Rating: 75V; Supplier: LCSC; Supplier Part Number: C2907011; Resistance: 20k; Tolerance: 1%; Power: 100mW
footprint RES SMD 0603
pins: 1, 2

## RES 0603 20k 1%_1
designator C?, comment 20k
20kR 100mW Thick Film Resistor 1% 100ppm/â„ƒ 0603 Chip Resistor - Surface Mount RoHS; Manufacturer: FOJAN; Manufacturer Part Number: FRQ0603F2002TS; Supplier: LCSC; Supplier Part Number: C7468442; Resistance: 20k; Tolerance: 1%; Power: 100mW
footprint RES SMD 0603
pins: 1, 2

## RES 0603 20k 5%
designator C?, comment 20k
20kR 5% 100mW 0603 Thick Film Resistor; Manufacturer: FOJAN; Manufacturer Part Number: FRC0603J203 TS; Voltage Rating: 75V; Supplier: LCSC; Supplier Part Number: C2907124; Resistance: 20k; Tolerance: 5%; Power: 100mW
footprint RES SMD 0603
pins: 1, 2

## RES 0603 20k 5%_1
designator C?, comment 20k
20kR 100mW 75V Thick Film Resistor 5% 100ppm/â„ƒ 0603 Chip Resistor - Surface Mount RoHS; Manufacturer: FOJAN; Manufacturer Part Number: FRQ0603J203 TS; Supplier: LCSC; Supplier Part Number: C7468410; Resistance: 20k; Tolerance: 5%; Voltage Rating: 75V; Power: 100mW
footprint RES SMD 0603
pins: 1, 2

## RES 0603 20k 5%_2
designator C?, comment 20k
20kR 100mW 75V Thick Film Resistor 100ppm/â„ƒ 5% 0603 Chip Resistor - Surface Mount RoHS; Manufacturer: FOJAN; Manufacturer Part Number: FRR0603J203 TS; Supplier: LCSC; Supplier Part Number: C49196796; Resistance: 20k; Tolerance: 5%; Voltage Rating: 75V; Power: 100mW
footprint RES SMD 0603
pins: 1, 2

## RES 0603 20MR 1%
designator C?, comment 20MR
20MR 1% 100mW 0603 Thick Film Resistor; Manufacturer: FOJAN; Manufacturer Part Number: FRG0603F2005TS; Voltage Rating: 75V; Supplier: LCSC; Supplier Part Number: C3013334; Resistance: 20MR; Tolerance: 1%; Power: 100mW
footprint RES SMD 0603
pins: 1, 2

## RES 0603 20MR 5%
designator C?, comment 20MR
20MR 5% 100mW 0603 Thick Film Resistor; Manufacturer: FOJAN; Manufacturer Part Number: FRG0603J206 TS; Voltage Rating: 75V; Supplier: LCSC; Supplier Part Number: C5126072; Resistance: 20MR; Tolerance: 5%; Power: 100mW
footprint RES SMD 0603
pins: 1, 2

## RES 0603 20R 1%
designator C?, comment 20R
20R 1% 100mW 0603 Thick Film Resistor; Manufacturer: FOJAN; Manufacturer Part Number: FRC0603F20R0TS; Voltage Rating: 75V; Supplier: LCSC; Supplier Part Number: C2907012; Resistance: 20R; Tolerance: 1%; Power: 100mW
footprint RES SMD 0603
pins: 1, 2

## RES 0603 20R 5%
designator C?, comment 20R
20R 5% 100mW 0603 Thick Film Resistor; Manufacturer: FOJAN; Manufacturer Part Number: FRC0603J200 TS; Voltage Rating: 75V; Supplier: LCSC; Supplier Part Number: C2907125; Resistance: 20R; Tolerance: 5%; Power: 100mW
footprint RES SMD 0603
pins: 1, 2